# Altium schematic symbol library Cap0603.SchLib: 6 symbols
Pins are listed as number, name and electrical type; pins without a type are passive.

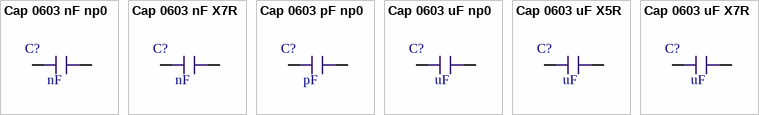
[diagram p0: symbols Cap 0603 nF np0 to Cap 0603 uF X7R]

## Cap 0603 nF np0
designator C?  value nF  (hidden comment: *)
Ceramic capacitor 0805 V np0 % μF; Type: 0603; Dielectric: np0; Tolerance: *; Voltage: *
footprint CAP0603
pins: 1, 2

## Cap 0603 nF X7R
designator C?  value nF  (hidden comment: *)
Ceramic capacitor 0805 V np0 % μF; Dielectric: X7R; Type: 0603; Tolerance: *; Voltage: *
footprint CAP0603
pins: 1, 2

## Cap 0603 pF np0
designator C?  value pF  (hidden comment: *)
Ceramic capacitor 0805 V np0 % μF; Type: 0603; Dielectric: np0; Tolerance: *; Voltage: *
footprint CAP0603
pins: 1, 2

## Cap 0603 uF np0
designator C?  value uF  (hidden comment: *)
Ceramic capacitor 0805 V np0 % μF; Type: 0603; Dielectric: np0; Tolerance: *; Voltage: *
footprint CAP0603
pins: 1, 2

## Cap 0603 uF X5R
designator C?  value uF  (hidden comment: *)
Ceramic capacitor 0805 V np0 % uF; Dielectric: X5R; Type: 0603; Tolerance: *; Voltage: *
footprint CAP0603
pins: 1, 2

## Cap 0603 uF X7R
designator C?  value uF  (hidden comment: *)
Ceramic capacitor 0805 V np0 % μF; Dielectric: X7R; Type: 0603; Tolerance: *; Voltage: *
footprint CAP0603
pins: 1, 2